# Altium footprint library Sensing Element.PcbLib: 32 footprints (part 2 of 2)
Each footprint in its own frame and in the unit in brackets; x right, y up, seen from the top. Pads: shape width x height; smd on the part's side, far side on the other; paste and mask are expansions set on the pad; w line width, h text height; cw(c..) or ccw(c..) is an arc to the next point about the centre after c.
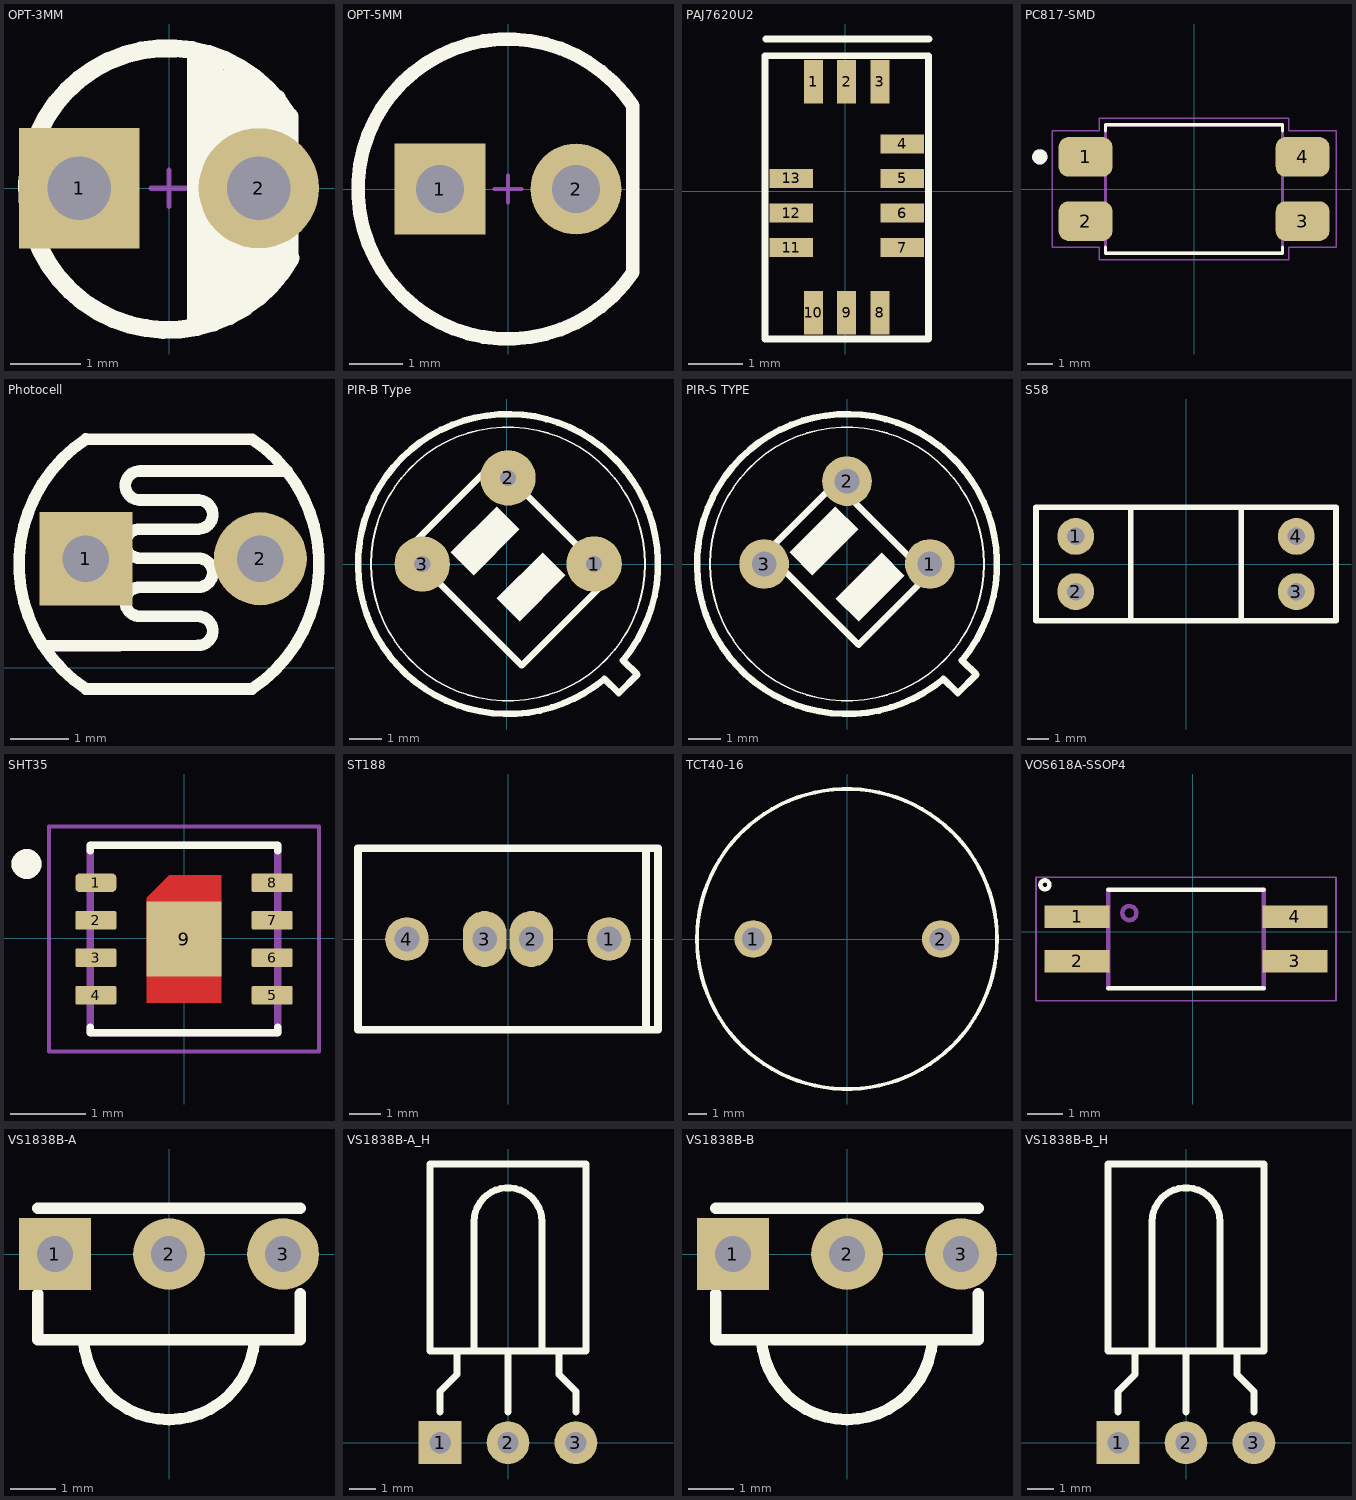
[diagram p1: the footprints below, top view; thin cyan lines are the x and y axes]

## OPT-3MM [mm] "3mmï¿½ï¿½ï¿½ï¿½ï¿½ï¿½Õ¹ï¿½"
height 6.35
pads (2):
  rect 1.7x1.7 hole 0.9: 1(-1.27,0)
  round 1.7 hole 0.9: 2(1.27,0)
Top Overlay:
  lines w0.254: 0.381,-1.905 0.381,1.905 ; 0.635,-1.778 0.635,1.778 ; 1.016,-1.651 1.016,1.524 ; 1.524,1.27 1.524,-1.27 1.27,-1.524 1.27,1.397 1.143,1.524 1.016,1.524 ; 1.685,1.025 ccw(c-0.016,-0.012) 1.72,-0.987 ; 1.702,-0.965 1.702,1.016 ; 0.889,1.651 0.889,-1.778 0.889,1.651 ; 0.889,1.651 1.016,1.524
Mechanical 15:
  lines w0.076: -0.254,0 0.254,0 ; 0,-0.254 0,0.254
3D body "LED 3mm-W.STEP": height 2.56, standoff -3.45, extent -1.623,-0.838 1.618,0.838
3D body "LED 3mm-������.STEP": height 5.55, standoff 0.05, extent -1.95,-1.95 1.638,1.95

## OPT-5MM [mm] "5mmï¿½ï¿½ï¿½ï¿½ï¿½ï¿½Õ¹ï¿½"
height 10.16
pads (2):
  rect 1.7x1.7 hole 0.9: 1(-1.27,0)
  round 1.7 hole 0.9: 2(1.27,0)
Top Overlay:
  lines w0.254: 2.33,-1.553 cw(c0,0) 2.33,1.553 2.33,-1.553
Mechanical 15:
  lines w0.076: -0.254,0 0.254,0 ; 0,-0.254 0,0.254
3D body "LED 5mm������.STEP": height 8.75, standoff 0.05, extent -2.85,-2.85 2.454,2.85
3D body "LED 5mm-W.STEP": height 4.5, standoff -3.45, extent -1.983,-0.795 2.076,0.805

## PAJ7620U2 [mm]
pads (13):
  rect 0.35x0.8 smd: 1(-0.585,2.006) 2(0.025,2.006) 3(0.635,2.006) 8(0.635,-2.234) 9(0.025,-2.234) 10(-0.585,-2.234)
  rect 0.8x0.35 smd: 4(1.045,0.869) 5(1.045,0.234) 6(1.045,-0.401) 7(1.045,-1.036) 11(-0.995,-1.036) 12(-0.995,-0.401) 13(-0.995,0.234)
Top Overlay:
  lines w0.127: -1.46,2.794 1.537,2.794 ; -1.475,-2.714 1.525,-2.714 1.525,2.486 -1.475,2.486 -1.475,-2.714

## PC817-SMD [mm]
pads (4):
  rrect50% 2.13x1.57 smd: 1(-4.29,1.27) 2(-4.29,-1.27) 3(4.29,-1.27) 4(4.29,1.27)
Top Overlay:
  circle w0.3: c-6.1,1.27 r0.15
  lines w0.127: -3.5,-2.304 -3.5,-2.54 3.5,-2.54 3.5,-2.304 ; -3.5,2.304 -3.5,2.54 3.5,2.54 3.5,2.304
Mechanical 13:
  circle w0.3: c-6.1,1.27 r0.15
  lines w0.127: -3.5,-2.54 -3.5,2.54 3.5,2.54 3.5,-2.54 -3.5,-2.54
Mechanical 15:
  lines w0.05: -5.61,-2.31 -5.61,2.31 -3.75,2.31 -3.75,2.79 3.75,2.79 3.75,2.31 5.61,2.31 5.61,-2.31 3.75,-2.31 3.75,-2.79 -3.75,-2.79 -3.75,-2.31 -5.61,-2.31
3D body "PC817XI.STEP": height 4, standoff 0, extent -4.875,-2.29 4.875,2.29

## Photocell [mm] "LDR"
pads (2):
  rect 1.6x1.6 hole 0.8: 1(3.194,1.876)
  round 1.6 hole 0.8: 2(6.194,1.876)
Top Overlay:
  lines w0.2: 2.464,0.376 5.124,0.386 ccw(c5.126,0.636) 5.125,0.886 4.124,0.886 cw(c4.123,1.136) 4.124,1.386 5.124,1.386 ccw(c5.126,1.636) 5.125,1.886 4.124,1.886 cw(c4.123,2.136) 4.124,2.386 5.124,2.386 ccw(c5.126,2.636) 5.125,2.886 4.125,2.886 ; 3.194,-0.364 6.053,-0.364 ; 3.194,3.936 6.053,3.934 cw(c4.624,1.786) 6.052,-0.363 ; 3.195,-0.363 cw(c4.624,1.786) 3.195,3.934 ; 4.124,2.886 cw(c4.123,3.136) 4.125,3.386 6.654,3.386
3D body "RG5528.STEP": height 1.9, standoff -3.45, extent 2.112,-0.366 7.112,3.934

## PIR-B Type [mm] "For D203B and D204B PIR Sensors"
height 4.7
pads (3):
  round 1.7 hole 0.5: 1(2.68,0) 2(0.04,2.64) 3(-2.59,0)
Top Overlay:
  circle w0.05: c0.04,0 r4.2
  region: -0.309,1.772 -1.723,0.358 -1.016,-0.349 0.398,1.065
  region: 1.105,0.358 -0.309,-1.056 0.398,-1.763 1.812,-0.349
  lines w0.2: -3.071,0.424 0.464,-3.111 3.151,-0.424 -0.384,3.111 -3.071,0.424 ; 2.997,-3.524 cw(c0.04,0) 3.564,-2.957 4.01,-3.39 3.44,-3.96 2.997,-3.524

## PIR-S TYPE [mil] "For D203S and D204S PIR Sensors"
height 185.04
pads (3):
  round 60 hole 30: 1(100,0) 2(0,100) 3(-100,0)
Top Overlay:
  circle w1.97: c0,0 r165.35
  region: -13.92,69.6 -69.6,13.92 -41.76,-13.92 13.92,41.76
  region: 41.76,13.92 -13.92,-41.76 13.92,-69.6 69.59,-13.92
  lines w7.87: -97.44,13.92 13.92,-97.44 97.44,-13.92 -13.92,97.44 -97.44,13.92 ; 116.41,-138.73 cw(c0,0) 138.73,-116.41 156.3,-133.46 133.86,-155.91 116.41,-138.73
Mechanical 1:
  lines w7.87: 138.67,-116.36 139.19,-116.36
3D body "PIR_S_Orginal.STEP": height 185.04, standoff -78.74, extent -178.63,-177.59 179.64,179.49

## S58 [mm] "ï¿½ï¿½ï¿½ï¿½ï¿½Í¹ï¿½ï¿½ï¿½"
pads (4):
  round 1.7 hole 0.8: 1(-5.08,1.27) 2(-5.08,-1.27) 3(5.08,-1.27) 4(5.08,1.27)
Top Overlay:
  lines w0.254: -2.54,-2.616 -2.54,2.616 ; 2.54,-2.54 2.54,2.54 ; -6.909,-2.616 6.909,-2.616 6.909,2.616 -5.08,2.616 -6.909,2.616 -6.909,-2.616
3D body "S58.STEP": height 10, standoff -3.5, extent -6.9,-2.6 6.9,2.6

## SHT35 [mm]
pads (9):
  rrect50% 0.55x0.25 smd mask+0: 1(-1.178,0.743)
  rrect20% 0.55x0.25 smd mask+0: 2(-1.178,0.243) 3(-1.178,-0.257) 4(-1.178,-0.757) 5(1.172,-0.757) 6(1.172,-0.257) 7(1.172,0.243) 8(1.172,0.743)
  rect 1x1 smd paste-1 mask+0: 9(-0.003,-0.007)
Top Layer:
  region: 0.497,-0.857 -0.503,-0.857 -0.503,0.543 -0.203,0.843 0.497,0.843
Top Overlay:
  circle w0.2: c-2.103,0.993 r0.1
  lines w0.1: -1.253,-1.182 -1.253,-1.257 1.247,-1.257 1.247,-1.182 ; -1.253,1.168 -1.253,1.243 1.247,1.243 1.247,1.168
Top Paste:
  region: 0.397,-0.757 -0.403,-0.757 -0.403,0.443 -0.103,0.743 0.397,0.743
Top Solder:
  drawing of 9 lines, arcs and shapes, not listed
Mechanical 13:
  circle w0.2: c-2.103,0.993 r0.1
  lines w0.1: -1.253,-1.257 -1.253,1.243 1.247,1.243 1.247,-1.257 -1.253,-1.257
Mechanical 15:
  lines w0.05: -1.803,-1.507 -1.803,1.493 1.797,1.493 1.797,-1.507 -1.803,-1.507
3D body "SHT35-DIS-B2.5KS--3DModel-STEP-1.STEP": height 0.9, standoff 0, extent -1.254,-1.258 1.248,1.244

## ST188 [mm] "ï¿½ï¿½ï¿½ï¿½ï¿½Í¹ï¿½ï¿½ï¿½"
pads (4):
  round 1.4 hole 0.8: 1(3.25,0) 4(-3.25,0)
  oval 1.4x1.8 hole 0.8: 2(0.75,0) 3(-0.75,0)
Top Overlay:
  lines w0.254: 4.445,-2.921 4.445,2.921 ; -4.826,-2.921 4.826,-2.921 4.826,2.921 -4.826,2.921 -4.826,-2.921
3D body "ST188.STEP": height 8.2, standoff -3.5, extent -4.7,-2.75 4.7,2.75

## TCT40-16 [mm] "ï¿½ï¿½ï¿½ï¿½ï¿½ï¿½ï¿½ï¿½ï¿½ä¡¢ï¿½ï¿½ï¿½"
pads (2):
  round 2 hole 1.2: 1(-5,0) 2(5,0)
Top Overlay:
  circle w0.203: c0,0 r8
3D body "TCT40.step": height 12, standoff -10, extent -8.1,-8.1 8.1,8.1

## VOS618A-SSOP4 [mm]
pads (4):
  rect 1.84x0.64 smd: 1(-3.276,0.432) 2(-3.276,-0.838) 3(2.895,-0.838) 4(2.895,0.432)
Top Overlay:
  circle w0.127: c-4.189,1.332 r0.127
  lines w0.127: -2.391,-1.603 2.01,-1.603 ; -2.391,1.197 2.01,1.197
Mechanical 13:
  circle w0.127: c-1.796,0.532 r0.2
  lines w0.127: -2.391,-1.603 -2.391,1.197 ; 2.01,-1.603 2.01,1.197
Mechanical 15:
  lines w0.05: -4.44,-1.953 4.059,-1.953 4.059,1.547 -4.44,1.547 -4.44,-1.953
3D body "VOS618A-7T(1).STEP": height 2.09, standoff -0.01, extent -3.691,-1.628 3.31,1.222

## VS1838B-A [mm] "Ò»ï¿½ï¿½ï¿½ï¿½ï¿½ï¿½ï¿½ï¿½Í·"
pads (3):
  rect 1.6x1.6 hole 0.8: 1(-2.54,0)
  round 1.6 hole 0.8: 2(0,0) 3(2.54,0)
Top Overlay:
  lines w0.254: -2.921,-0.889 -2.921,-1.905 2.921,-1.905 2.921,-0.889 ; -2.921,1.016 2.921,1.016 ; -1.905,-1.905 ccw(c0,-1.778) 1.905,-1.905
3D body "VS1838B-A.STEP": height 8.3, standoff -3.5, extent -2.84,-3.6 2.84,0.8

## VS1838B-A_H [mm] "ï¿½ï¿½Ê½Ò»ï¿½ï¿½ï¿½ï¿½ï¿½ï¿½ï¿½ï¿½Í·"
pads (3):
  rect 1.6x1.6 hole 0.8: 1(-2.54,0)
  round 1.6 hole 0.8: 2(0,0) 3(2.54,0)
Top Overlay:
  lines w0.254: -2.54,1.143 -2.54,1.905 -1.905,2.54 -1.905,3.429 ; -1.27,3.429 -1.27,8.255 cw(c0,8.255) 1.27,8.255 1.27,3.429 ; 0,1.143 0,3.429 ; 1.905,3.429 1.905,2.54 2.54,1.905 2.54,1.143 ; -2.921,3.429 2.921,3.429 2.921,10.414 -2.921,10.414 -2.921,3.429
3D body "VS1838B-A_H.STEP": height 4.4, standoff -3.5, extent -2.84,-0.2 2.84,10.3

## VS1838B-B [mm] "Ò»ï¿½ï¿½ï¿½ï¿½ï¿½ï¿½ï¿½ï¿½Í·"
pads (3):
  rect 1.6x1.6 hole 0.8: 1(-2.54,0)
  round 1.6 hole 0.8: 2(0,0) 3(2.54,0)
Top Overlay:
  lines w0.254: -2.921,-0.889 -2.921,-1.905 2.921,-1.905 2.921,-0.889 ; -2.921,1.016 2.921,1.016 ; -1.905,-1.905 ccw(c0,-1.778) 1.905,-1.905
3D body "VS1838B-B.STEP": height 8.65, standoff -3.5, extent -3.4,-3.95 3.4,1.15

## VS1838B-B_H [mm] "ï¿½ï¿½Ê½Ò»ï¿½ï¿½ï¿½ï¿½ï¿½ï¿½ï¿½ï¿½Í·"
pads (3):
  rect 1.6x1.6 hole 0.8: 1(-2.54,0)
  round 1.6 hole 0.8: 2(0,0) 3(2.54,0)
Top Overlay:
  lines w0.254: -2.54,1.143 -2.54,1.905 -1.905,2.54 -1.905,3.429 ; -1.27,3.429 -1.27,8.255 cw(c0,8.255) 1.27,8.255 1.27,3.429 ; 0,1.143 0,3.429 ; 1.905,3.429 1.905,2.54 2.54,1.905 2.54,1.143 ; -2.921,3.429 -2.921,10.414 2.921,10.414 2.921,3.429 -2.921,3.429
3D body "VS1838B-B_H.STEP": height 5.15, standoff -3.1, extent -3.4,-0.2 3.4,10.65